# Altium footprint library SWITCHCRAFT_RAPC722X.PcbLib: 1 footprints
Each footprint in its own frame and in the unit in brackets; x right, y up, seen from the top. Pads: shape width x height; smd on the part's side, far side on the other; paste and mask are expansions set on the pad; w line width, h text height; cw(c..) or ccw(c..) is an arc to the next point about the centre after c.
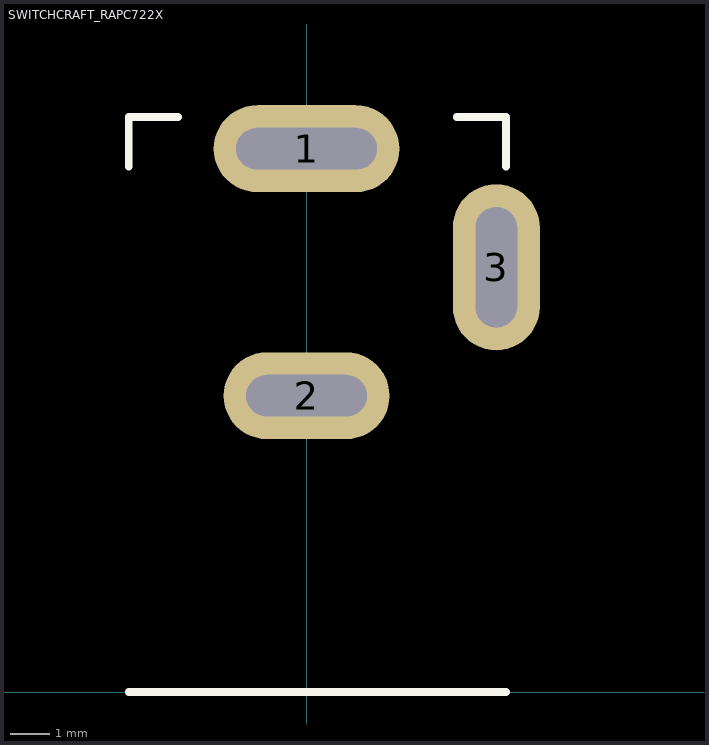
[diagram p0: the footprint, top view; thin cyan lines are the x and y axes]

## SWITCHCRAFT_RAPC722X [mm] "2x5.5mm Barrel Connector"
pads (3):
  oval 4.7x2.2 hole 1.05 slot 3.56 at 0 deg: 1(0,13.75)
  oval 4.2x2.2 hole 3.05 slot 1.05 at 90 deg: 2(0,7.5)
  oval 2.2x4.2 hole 3.05 slot 1.05 at 0 deg: 3(4.8,10.75)
Top Overlay:
  lines w0.2: -4.5,0 5.05,0 ; -4.5,13.3 -4.5,14.55 -3.25,14.55 ; 3.8,14.55 5.05,14.55 5.05,13.3
3D body "RAPC722X.STEP": height 10.96, standoff -3.45, extent -4.496,0 5.055,14.542